# EAGLE library part 68HC908JL* (library freescale)
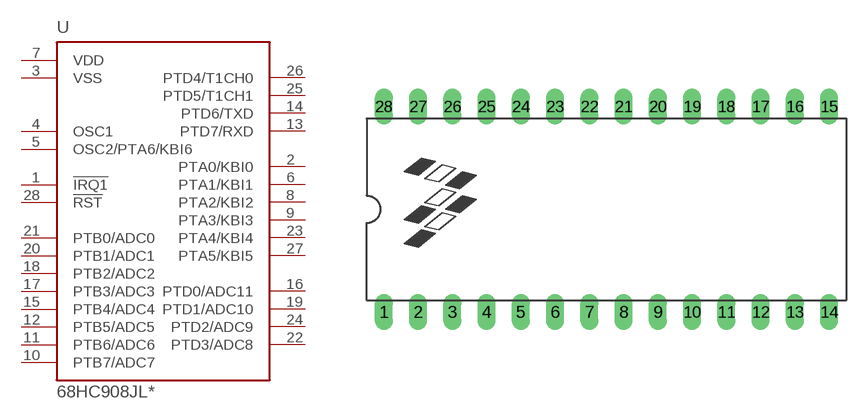
[diagram p3: symbol with the pads of PSDIP_28; footprint PSDIP_28]

Designator prefix -

## 68HC908JL  [PSDIP_28]
1  !IRQ1  in
2  PTA0/KBI0
3  VSS  pwr
4  OSC1  in
5  OSC2/PTA6/KBI6  out
6  PTA1/KBI1
7  VDD  pwr
8  PTA2/KBI2
9  PTA3/KBI3
10  PTB7/ADC7
11  PTB6/ADC6
12  PTB5/ADC5
13  PTD7/RXD
14  PTD6/TXD
15  PTB4/ADC4
16  PTD0/ADC11
17  PTB3/ADC3
18  PTB2/ADC2
19  PTD1/ADC10
20  PTB1/ADC1
21  PTB0/ADC0
22  PTD3/ADC8
23  PTA4/KBI4
24  PTD2/ADC9
25  PTD5/T1CH1
26  PTD4/T1CH0
27  PTA5/KBI5
28  !RST  in

## Footprint PSDIP_28 (pad centres in mm)
28-Pin (DIP) Case #858 Source: http://www.freescale.com/files/microcontrollers/doc/data_sheet/MC68HC908JL8.pdf
drill 0.813 long: 1 -15.24,-7.62; 2 -12.7,-7.62; 3 -10.16,-7.62; 4 -7.62,-7.62; 5 -5.08,-7.62; 6 -2.54,-7.62; 7 0,-7.62; 8 2.54,-7.62; 9 5.08,-7.62; 10 7.62,-7.62; 11 10.16,-7.62; 12 12.7,-7.62; 13 15.24,-7.62; 14 17.78,-7.62; 15 17.78,7.62; 16 15.24,7.62; 17 12.7,7.62; 18 10.16,7.62; 19 7.62,7.62; 20 5.08,7.62; 21 2.54,7.62; 22 0,7.62; 23 -2.54,7.62; 24 -5.08,7.62; 25 -7.62,7.62; 26 -10.16,7.62; 27 -12.7,7.62; 28 -15.24,7.62